# EAGLE library part PM6685 (library r_cubed)
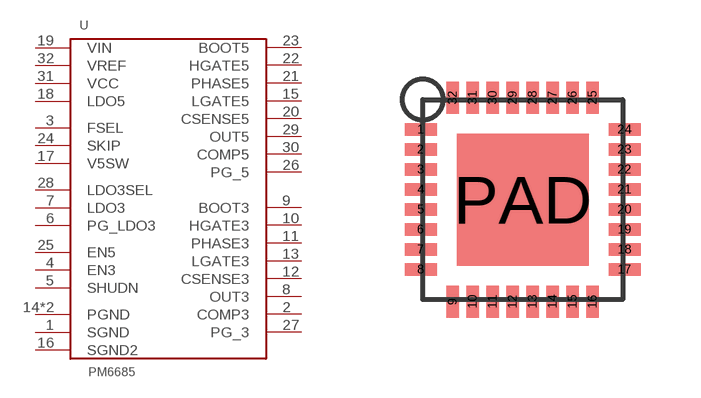
[diagram p7: symbol with the pads of VFQFPN-32; footprint VFQFPN-32]

Designator prefix -

## PM6685  [VFQFPN-32]
1  SGND
2  COMP3
3  FSEL
4  EN3
5  SHUDN
6  PG_LDO3
7  LDO3
8  OUT3
9  BOOT3
10  HGATE3
11  PHASE3
12  CSENSE3
13  LGATE3
14  PGND
15  LGATE5
16  SGND2
17  V5SW
18  LDO5
19  VIN
20  CSENSE5
21  PHASE5
22  HGATE5
23  BOOT5
24  SKIP
25  EN5
26  PG_5
27  PG_3
28  LDO3SEL
29  OUT5
30  COMP5
31  VCC
32  VREF
PAD  PGND

## Footprint VFQFPN-32 (pad centres in mm)
smd 0.8 x 0.32: 1 -2.55,1.75; 2 -2.55,1.25; 3 -2.55,0.75; 4 -2.55,0.25; 5 -2.55,-0.25; 6 -2.55,-0.75; 7 -2.55,-1.25; 8 -2.55,-1.75; 17 2.55,-1.75; 18 2.55,-1.25; 19 2.55,-0.75; 20 2.55,-0.25; 21 2.55,0.25; 22 2.55,0.75; 23 2.55,1.25; 24 2.55,1.75
smd 0.32 x 0.8: 9 -1.75,-2.55; 10 -1.25,-2.55; 11 -0.75,-2.55; 12 -0.25,-2.55; 13 0.25,-2.55; 14 0.75,-2.55; 15 1.25,-2.55; 16 1.75,-2.55; 25 1.75,2.55; 26 1.25,2.55; 27 0.75,2.55; 28 0.25,2.55; 29 -0.25,2.55; 30 -0.75,2.55; 31 -1.25,2.55; 32 -1.75,2.55
smd 3.3 x 3.3: PAD 0,0